# Altium footprint library THT_Connectors.PcbLib: 8 footprints
Each footprint in its own frame and in the unit in brackets; x right, y up, seen from the top. Pads: shape width x height; smd on the part's side, far side on the other; paste and mask are expansions set on the pad; w line width, h text height; cw(c..) or ccw(c..) is an arc to the next point about the centre after c.
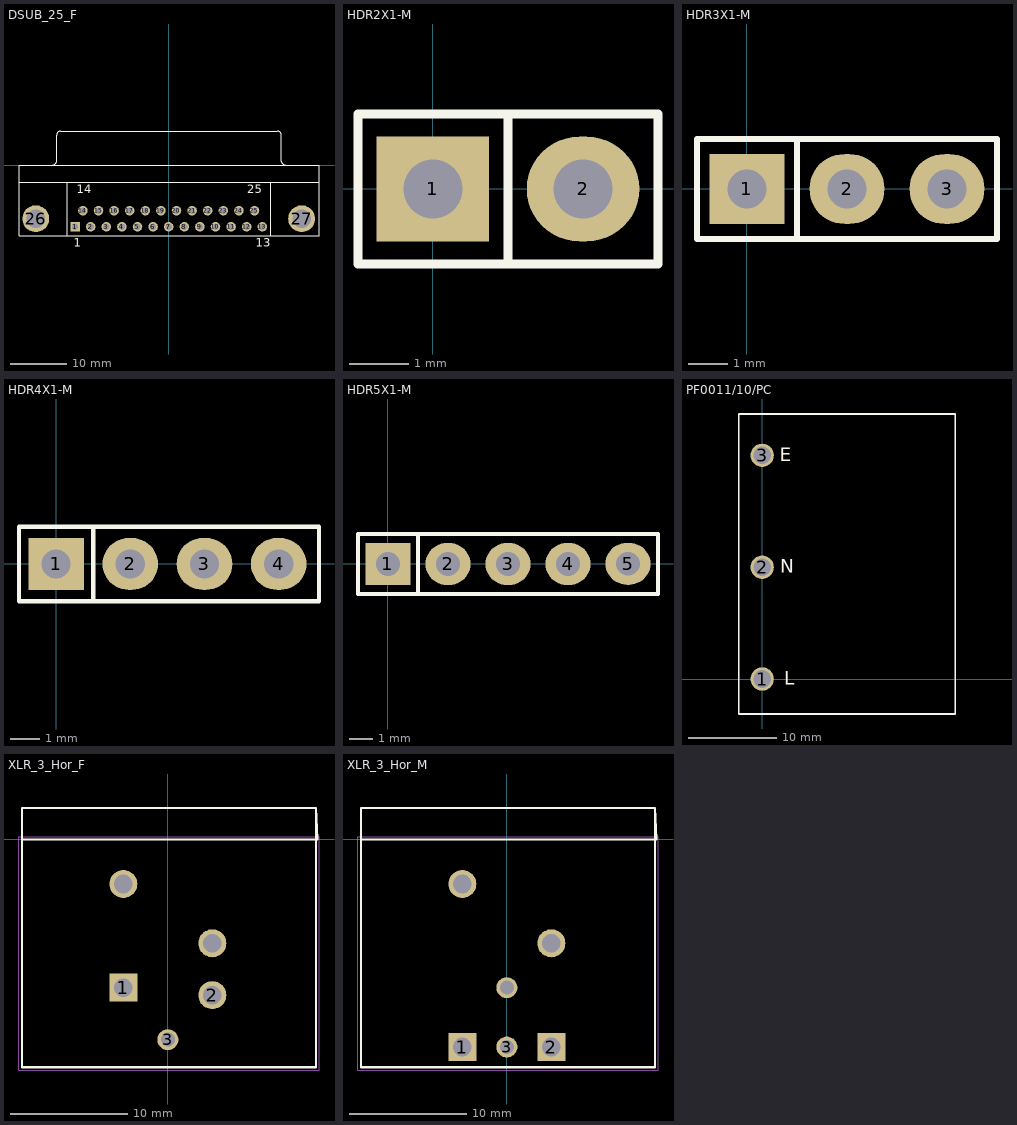
[diagram p0: the footprints below, top view; thin cyan lines are the x and y axes]

## DSUB_25_F [mm] "D-Sub 25 Position; Right Angle; Pitch 1.385 mm"
height 12.93
pads (27):
  rect 1.69x1.69 hole 1.09: 1(-16.566,-10.92)
  round 1.69 hole 1.09: 2(-13.805,-10.92) 3(-11.044,-10.92) 4(-8.283,-10.92) 5(-5.522,-10.92) 6(-2.761,-10.92) 7(0,-10.92) 8(2.761,-10.92) 9(5.522,-10.92) 10(8.283,-10.92) 11(11.044,-10.92) 12(13.805,-10.92) 13(16.566,-10.92) 14(-15.185,-8.08) 15(-12.424,-8.08) 16(-9.663,-8.08) 17(-6.902,-8.08) 18(-4.141,-8.08) 19(-1.38,-8.08) 20(1.381,-8.08) 21(4.142,-8.08) 22(6.903,-8.08) 23(9.664,-8.08) 24(12.425,-8.08) 25(15.186,-8.08)
  round 4.76 hole 3.26: 26(-23.526,-9.5) 27(23.526,-9.5)
Top Overlay:
  lines w0.2: -26.496,-3 26.604,-3 ; -20.541,0.005 ccw(c-20.541,0.7) -19.846,0.7 -19.846,5.3 ; -19.841,5.305 cw(c-19.146,5.305) -19.146,6 19.254,6 cw(c19.254,5.305) 19.949,5.305 ; -17.946,-12.5 -17.946,-3 ; 18.054,-12.5 18.054,-3 ; 19.954,5.3 19.954,0.7 ccw(c20.649,0.7) 20.649,0.005 ; -26.496,-12.5 26.604,-12.5 26.604,0 -26.496,0 -26.496,-12.5
  text "1" at -16.816,-14.475 h1.5
  text "13" at 15.441,-14.475 h1.5
  text "14" at -16.31,-4.975 h1.5
  text "25" at 13.936,-4.975 h1.5
3D body "SW3dPS-d-sub25 connector.STEP": height 12.57, standoff -4.57, extent -26.47,-12.5 26.57,8

## HDR2X1-M [mil] "Header, 2-pin, 2.54"
pads (2):
  rect 75x70 hole 39.37: 1(0,0)
  oval 75x70 hole 39.37: 2(100,0)
Top Overlay:
  lines w6: 50,-50 50,50 ; 150,-50 -50,-50 -50,50 150,50 150,-49.92
3D body: height 100, standoff 0, extent -51,-49.69 150,51.01
3D body: height 329.92, standoff -129.92, extent 87.8,-12.2 112.21,12.21
3D body: height 329.92, standoff -129.92, extent -12.2,-12.2 12.21,12.21

## HDR3X1-M [mil] "Header, 3-pin, 2.54"
pads (3):
  rect 75x70 hole 39.37: 1(0,0)
  oval 75x70 hole 39.37: 2(100,0) 3(200,0)
Top Overlay:
  lines w6: 50,-50 50,50 ; -50,-50 -50,50 250,50 250,-50 -50,-50
3D body: height 329.92, standoff -129.92, extent -12.2,-12.2 12.21,12.21
3D body: height 329.92, standoff -129.92, extent 187.8,-12.2 212.21,12.21
3D body: height 329.92, standoff -129.92, extent 87.8,-12.2 112.21,12.21
3D body: height 100, standoff 0, extent -51,-49.73 250,51.01

## HDR4X1-M [mil] "Header, 5-pin, 2.54"
pads (4):
  rect 75x70 hole 39.37: 1(0,0)
  oval 75x70 hole 39.37: 2(100,0) 3(200,0) 4(300,0)
Top Overlay:
  lines w6: 50,-50 50,50 ; -50,-50 -50,50 354.33,50 354.33,-50 -50,-50
3D body: height 329.92, standoff -129.92, extent -12.2,-12.2 12.21,12.21
3D body: height 329.92, standoff -129.92, extent 187.8,-12.2 212.21,12.21
3D body: height 329.92, standoff -129.92, extent 287.8,-12.2 312.21,12.21
3D body: height 329.92, standoff -129.92, extent 87.8,-12.2 112.21,12.21
3D body: height 100, standoff 0, extent -51,-49.77 354.33,51.01

## HDR5X1-M [mil] "Header, 5-pin, 2.54"
pads (5):
  rect 75x70 hole 39.37: 1(0,0)
  oval 75x70 hole 39.37: 2(100,0) 3(200,0) 4(300,0) 5(400,0.4)
Top Overlay:
  lines w6: 50,-50 50,50 ; 450,-50 -50,-50 -50,50 439,50 450,50 450,-49.8
3D body: height 329.92, standoff -129.92, extent -12.2,-12.2 12.21,12.21
3D body: height 329.92, standoff -129.92, extent 187.8,-12.2 212.21,12.21
3D body: height 329.92, standoff -129.92, extent 287.8,-12.2 312.21,12.21
3D body: height 329.92, standoff -129.92, extent 87.8,-12.2 112.21,12.21
3D body: height 329.92, standoff -129.92, extent 387.8,-12.2 412.21,12.21
3D body: height 100, standoff 0, extent -51,-49.8 450,51.01

## PF0011/10/PC [mm] "AC Male Power Entry, PC Snap Fit to Panel Fused Inlet, IEC60 320-1 C14"
height 27.8
pads (3):
  round 2.65 hole 2: 1(0,0) 2(0,12.7) 3(0,25.4)
Top Overlay:
  lines w0.2: -2.65,-3.975 -2.65,30.1 21.925,30.1 21.925,-3.975 -2.65,-3.975
  text "E" at 1.975,24.75 h1.52
  text "N" at 2.075,12.05 h1.52
  text "L" at 2.5,-0.65 h1.52
3D body "pf0011-10-pc.stp": height 28.86, standoff -4.94, extent -2.765,-3.88 22.025,30.03

## XLR_3_Hor_F [mm]
pads (5):
  rect 2.4x2.4 hole 1.6: 1(-3.81,-12.7)
  round 2.4 hole 1.6: 2(3.81,-13.335) ""(-3.81,-3.81) ""(3.81,-8.89)
  round 1.8 hole 1.2: 3(0,-17.15)
Top Overlay:
  lines w0.2: 12.8,0 12.7,2.7 ; -12.5,0 12.7,0 ; -12.5,0 -12.5,-19.5 12.7,-19.5 12.7,0 ; -12.5,0 -12.5,2.7 12.7,2.7 ; 12.7,0 12.7,2.7
Mechanical 4:
  lines w0.05: -12.75,-19.75 -12.75,0.25 12.95,0.25 12.95,-19.75 -12.75,-19.75
3D body "User Library-NC3FAH1-1.STEP": height 29.15, standoff -3.5, extent -12.548,-19.575 12.799,6.825

## XLR_3_Hor_M [mm]
pads (6):
  rect 2.4x2.4 hole 1.6: 1(-3.81,-17.78) 2(3.81,-17.78)
  round 1.8 hole 1.2: 3(0,-17.78) ""(0,-12.7)
  round 2.4 hole 1.6: ""(-3.81,-3.81) ""(3.81,-8.89)
Top Overlay:
  lines w0.2: 12.8,0 12.7,2.7 ; -12.5,0 -12.5,2.7 12.7,2.7 ; -12.5,0 -12.5,-19.5 12.7,-19.5 12.7,0 ; -12.5,0 12.7,0 ; 12.7,0 12.7,2.7
Mechanical 4:
  lines w0.05: -12.75,-19.75 12.95,-19.75 12.95,0.25 -12.75,0.25 -12.75,-19.75
3D body "3D+File+NC3MAH.stp": height 25.35, standoff -3.5, extent -12.574,-19.575 12.773,2.625